# EAGLE library part LSF0204PWR (library 296-38653-1-ND)
4-Bit Bidirectional Multi-Voltage Level Translator for Open-Drain & Push- Pull 14-TSSOP -40 to 125
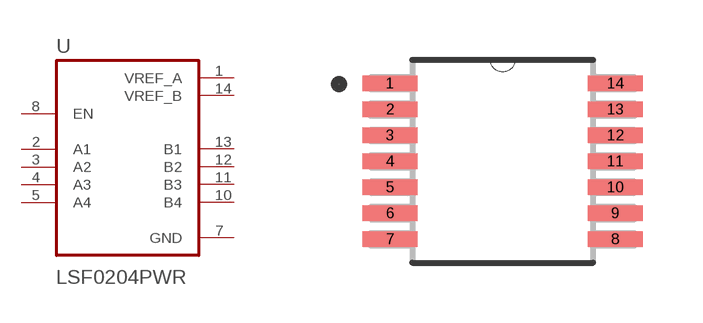
[diagram p0: symbol with the pads of SOP65P640X120-14N; footprint SOP65P640X120-14N]

Designator prefix U

## LSF0204PWR (Description: 4-Bit Bidirectional Multi-Voltage Level Translator for Open-Drain & Push- Pull 14-TSSOP -40 to 125; Digi-Key_Part_Number: 296-38653-1-ND; Digi-Key_Purchase_URL: https://www.digikey.com/product-detail/en/texas-instruments/LSF0204PWR/296-38653-1-ND/5056916?utm_source=snapeda&utm_medium=aggregator&utm_campaign=symbol; MF: Texas Instruments; MP: LSF0204PWR; Package: TSSOP-14 Texas Instruments)  [SOP65P640X120-14N]
1  VREF_A  pwr
2  A1
3  A2
4  A3
5  A4
7  GND  pwr
8  EN  in
10  B4
11  B3
12  B2
13  B1
14  VREF_B  pwr

## Footprint SOP65P640X120-14N (pad centres in mm)
smd 1.37 x 0.39: 1 -2.82,1.95; 2 -2.82,1.3; 3 -2.82,0.65; 4 -2.82,0; 5 -2.82,-0.65; 6 -2.82,-1.3; 7 -2.82,-1.95; 8 2.82,-1.95; 9 2.82,-1.3; 10 2.82,-0.65; 11 2.82,0; 12 2.82,0.65; 13 2.82,1.3; 14 2.82,1.95